# Altium footprint library SO28-SPE-P18F26k80.PcbLib: 1 footprints
Each footprint in its own frame and in the unit in brackets; x right, y up, seen from the top. Pads: shape width x height; smd on the part's side, far side on the other; paste and mask are expansions set on the pad; w line width, h text height; cw(c..) or ccw(c..) is an arc to the next point about the centre after c.
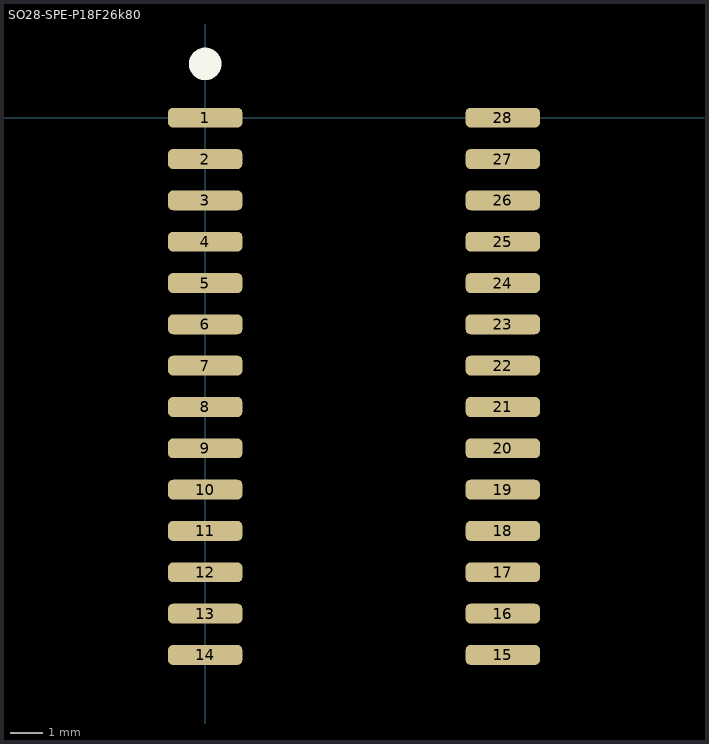
[diagram p0: the footprint, top view; thin cyan lines are the x and y axes]

## SO28-SPE-P18F26k80 [mil]
height 68.9
pads (28):
  rrect50% 90x24 smd: 1(0,0) 2(0,-50) 3(0,-100) 4(0,-150) 5(0,-200) 6(0,-250) 7(0,-300) 8(0,-350) 9(0,-400) 10(0,-450) 11(0,-500) 12(0,-550) 13(0,-600) 14(0,-650) 15(360,-650) 16(360,-600) 17(360,-550) 18(360,-500) 19(360,-450) 20(360,-400) 21(360,-350) 22(360,-300) 23(360,-250) 24(360,-200) 25(360,-150) 26(360,-100) 27(360,-50) 28(360,0)
Top Overlay:
  circle w19.68: c0,65 r9.84
3D body: height 101.97, standoff -1.97, extent -29.04,-679.81 391.04,32